# Altium schematic symbol library con-chipcard-iso7816.SCHLIB: 3 symbols
Pins are listed as number, name and electrical type; pins without a type are passive.

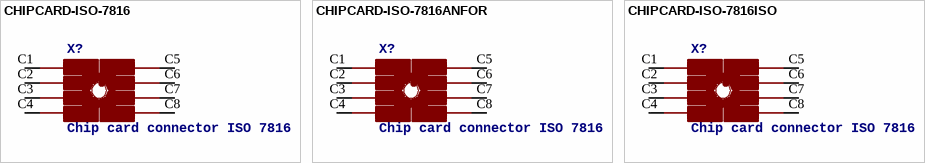
[diagram p0: symbols CHIPCARD-ISO-7816 to CHIPCARD-ISO-7816ISO]

## CHIPCARD-ISO-7816
designator X?, comment Chip card connector ISO 7816
OC_FARNELL: unknown; OC_NEWARK: unknown
footprint ISO7816
pins: C1 VCC, C2 RST, C3 CLK, C4 NC@4, C5 GND, C6 NC@6, C7 I/O, C8 NC@8

## CHIPCARD-ISO-7816ANFOR
designator X?, comment Chip card connector ISO 7816
OC_FARNELL: unknown; OC_NEWARK: unknown
footprint AFNOR-CHIPCARD
pins: C1 VCC, C2 RST, C3 CLK, C4 NC@4, C5 GND, C6 NC@6, C7 I/O, C8 NC@8

## CHIPCARD-ISO-7816ISO
designator X?, comment Chip card connector ISO 7816
OC_FARNELL: unknown; OC_NEWARK: unknown
footprint ISO-7816
pins: C1 VCC, C2 RST, C3 CLK, C4 NC@4, C5 GND, C6 NC@6, C7 I/O, C8 NC@8